# Altium schematic symbol library IC_电源.SchLib: 3 symbols
Pins are listed as number, name and electrical type; pins without a type are passive.

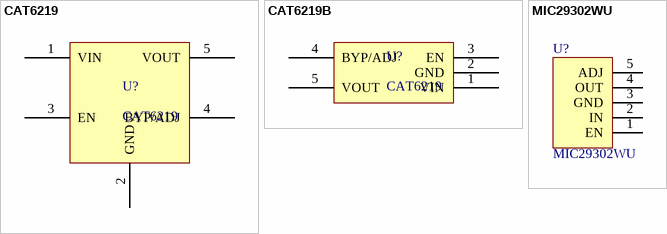
[diagram p0: symbols CAT6219 to MIC29302WU]

## CAT6219
designator U?
500 mA CMOS LDO Regulator
footprint SOT23-5 (SOT-23/SC-74A; 5 Leads; Body 3 x 3 mm, inc. leads (LxW max))
pins: 1 VIN, 2 GND, 3 EN, 4 BYP/ADJ, 5 VOUT

## CAT6219B
designator U?, comment CAT6219
500 mA CMOS LDO Regulator
footprint SOT23-5 (SOT-23/SC-74A; 5 Leads; Body 3 x 3 mm, inc. leads (LxW max))
pins: 1 VIN, 2 GND, 3 EN, 4 BYP/ADJ, 5 VOUT

## MIC29302WU
designator U?
2A,  adjustable LDO
footprint TO263-5A (IC REG LDO ADJ 3A TO263-5)
footprint TO263-5 (D2PACK, TO-263 Case, 5 Lead, SMD Power IC)
pins: 1 EN, 2 IN, 3 GND, 4 OUT, 5 ADJ